# Altium schematic symbol library Transformers.SchLib: 7 symbols
Pins are listed as number, name and electrical type; pins without a type are passive.

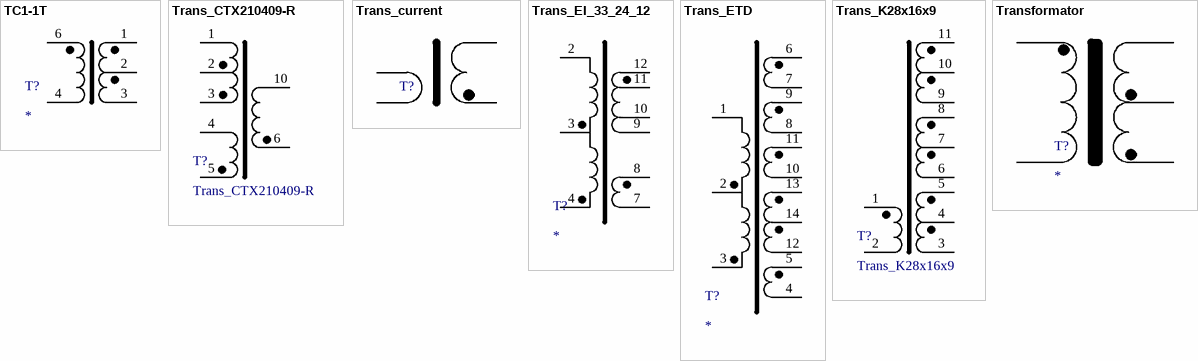
[diagram p0: symbols TC1-1T to Transformator]

## TC1-1T
designator T?
RF Transformer
footprint AT224
pins: 1, 2, 3, 4, 6

## Trans_CTX210409-R
designator T?
footprint CTX210409-R
pins: 1, 2, 3, 4, 5, 6, 10

## Trans_current
designator T?, comment K20x12x6  (value not drawn)
Transformator_current
footprint Trans_K20x12x6
pins: 1, 2, 3, 4

## Trans_EI_33_24_12
designator T?
ComponentLink2Description: Datasheet ETD34; ComponentLink2URL: http://www.epcos.com/inf/80/db/fer_13/etd_34_17_11.pdf; ComponentLink1Description: Datasheet ETD29; ComponentLink1URL: http://www.thierry-lequeu.fr/data/ETD29-EPCOS.pdf; Value: *
footprint ETD34V
pins: 2, 3, 4, 7, 8, 9, 10, 11, 12

## Trans_ETD
designator T?
ComponentLink2Description: Datasheet ETD34; ComponentLink2URL: http://www.epcos.com/inf/80/db/fer_13/etd_34_17_11.pdf; ComponentLink1Description: Datasheet ETD29; ComponentLink1URL: http://www.thierry-lequeu.fr/data/ETD29-EPCOS.pdf; Value: *
footprint ETD29V
footprint ETD29H
footprint ETD34H
footprint ETD29H_SMD
pins: 1, 2, 3, 4, 5, 6, 7, 8, 9, 10, 11, 12, 13, 14

## Trans_K28x16x9
designator T?
footprint Trans_K28x16x9
pins: 1, 2, 3, 4, 5, 6, 7, 8, 9, 10, 11

## Transformator
designator T?
RF Transformer
footprint Trans_OUT
footprint Trans_TRX in\out
footprint Transformer E65
pins: 1, 2, 3, 4, 5